# Altium integrated library Linear Technology PMIC-Switching Reg LTC1174-LTC3901.IntLib: 2647 symbols (part 231 of 310)
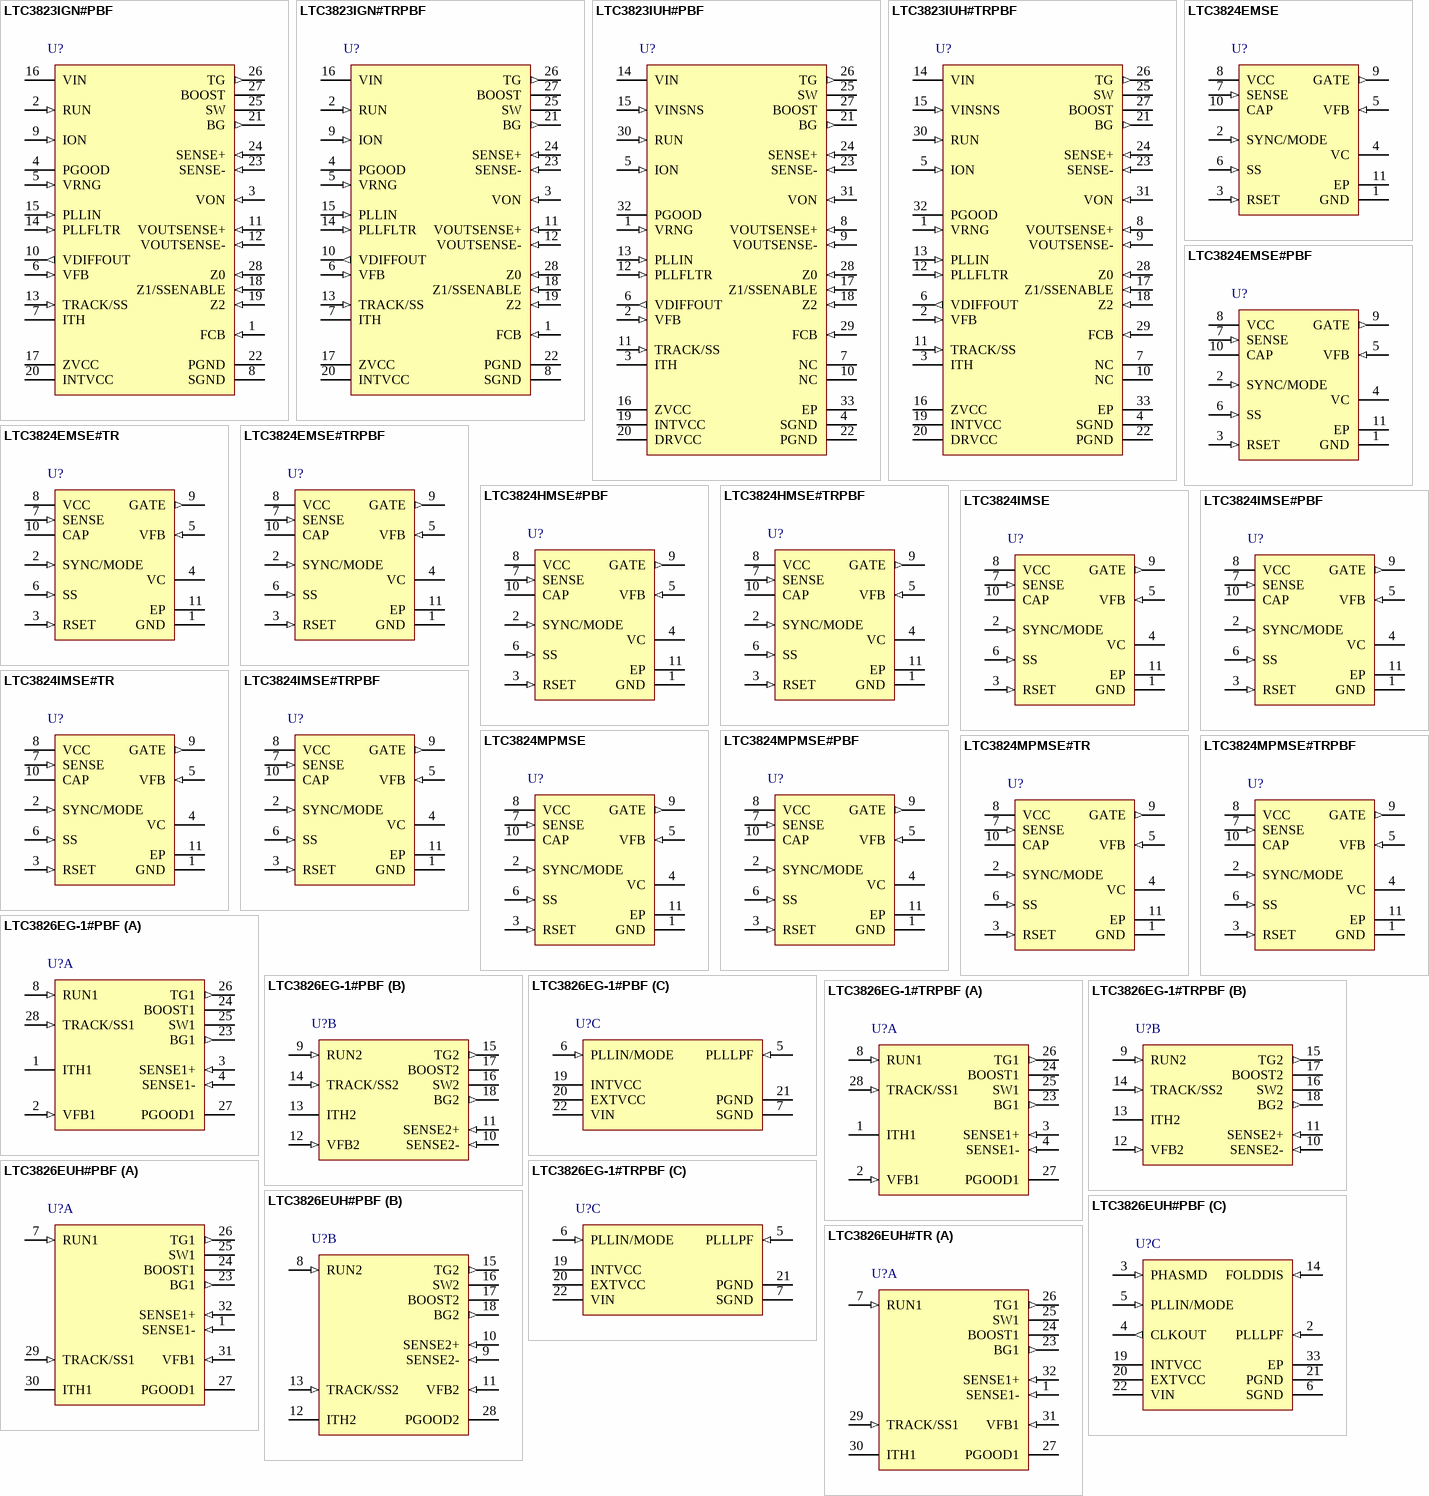
[diagram p251: symbols LTC3823IGN#PBF to LTC3826EUH#TR]

## LTC3824EMSE
designator U?
High Voltage Step-Down Controller with 40 uA Quiescent Current, 10-pin SOP (MSE-10-EDP), -40 to 125 degC; Manufacturer: Linear Technology; PartNumber: LTC3824EMSE; Number of Outputs: 1; PackageReference: MSE-10; PackageDescription: 10-Pin Plastic MSOP, Exposed Die Pad, Body 3 x 3 mm, Pitch 0.5 mm; Supplier 1: Newark; Supplier Part Number 1: 56M8524; RoHS: FALSE
footprint LT-MSE-10-EDP_N (SOP, 10-Leads, Body 3.1x3.1mm, Pitch 0.5mm, Thermal Pad 1.88x1.68mm, IPC Medium Density)
footprint LT-MSE-10-EDP_L (SOP, 10-Leads, Body 3.1x3.1mm, Pitch 0.5mm, Thermal Pad 1.88x1.68mm, IPC High Density)
footprint LT-MSE-10-EDP_M (SOP, 10-Leads, Body 3.1x3.1mm, Pitch 0.5mm, Thermal Pad 1.88x1.68mm, IPC Low Density)
pins: 1 GND (power) "Chip Ground Pin.", 2 SYNC/MODE (in) "Synchronization Input and Burst Mode Operation Enable/Disable. If this pin is left open or pulled higher than 2V, Burst Mode operation will be enabled at light load and the typical threshold of entering Burst Mode operation (See Datasheet)", 3 RSET (in) "A resistor from RSET to ground sets the LTC3824 switching frequency.", 4 VC "The Output of the voltage error amplifier gm and the control signal of the current mode PWM control loop. Switching starts at 0.7V, and higher VC corresponds to higher inductor current. When VC is pulled below 25mV, the (See Datasheet)", 5 VFB (in) "Error Amplifier Inverting Input. A resistor divider to this pin sets the output voltage. When VFB is less than 0.5V, the switching frequency will fold back to 50kHz to reduce the minimum on-cycle.", 6 SS (in) "Soft-Start Pin. A capacitor on this pin sets the output ramp-up rate. The typical time for SS to reach the programmed level is (C • 0.8V)/5uA.", 7 SENSE (in) "Current Sense Input Pin. A sense resistor, RS, from VIN to SENSE sets the current limit to 100mV/RS.", 8 VCC (power) "Chip Power Supply. Power supply bypassing is required.", 9 GATE (out) "Gate Drive for The External P-channel MOSFET. Typical peak drive current is 2.5A and the drive voltage is clamped to 8V when VCC is higher than 9V.", 10 CAP "A Low ESR Capacitor of at Least 0.1uF is required from this pin to VCC to bypass the internal regulator for biasing the gate driver circuitry.", 11 EP (power) "Ground. Must be soldered to PCB with expanded metal trace for rated thermal performance."

## LTC3824EMSE#PBF
designator U?
High Voltage Step-Down Controller with 40 uA Quiescent Current, 10-pin SOP (MSE-10-EDP), -40 to 125 degC, Pb-Free; Manufacturer: Linear Technology; PartNumber: LTC3824EMSE#PBF; Number of Outputs: 1; PackageReference: MSE-10; PackageDescription: 10-Pin Plastic MSOP, Exposed Die Pad, Body 3 x 3 mm, Pitch 0.5 mm; Supplier 1: Digi-Key; Supplier Part Number 1: LTC3824EMSE#PBF-ND; RoHS: TRUE
footprint LT-MSE-10-EDP_N (SOP, 10-Leads, Body 3.1x3.1mm, Pitch 0.5mm, Thermal Pad 1.88x1.68mm, IPC Medium Density)
footprint LT-MSE-10-EDP_L (SOP, 10-Leads, Body 3.1x3.1mm, Pitch 0.5mm, Thermal Pad 1.88x1.68mm, IPC High Density)
footprint LT-MSE-10-EDP_M (SOP, 10-Leads, Body 3.1x3.1mm, Pitch 0.5mm, Thermal Pad 1.88x1.68mm, IPC Low Density)
pins: 1 GND (power) "Chip Ground Pin.", 2 SYNC/MODE (in) "Synchronization Input and Burst Mode Operation Enable/Disable. If this pin is left open or pulled higher than 2V, Burst Mode operation will be enabled at light load and the typical threshold of entering Burst Mode operation (See Datasheet)", 3 RSET (in) "A resistor from RSET to ground sets the LTC3824 switching frequency.", 4 VC "The Output of the voltage error amplifier gm and the control signal of the current mode PWM control loop. Switching starts at 0.7V, and higher VC corresponds to higher inductor current. When VC is pulled below 25mV, the (See Datasheet)", 5 VFB (in) "Error Amplifier Inverting Input. A resistor divider to this pin sets the output voltage. When VFB is less than 0.5V, the switching frequency will fold back to 50kHz to reduce the minimum on-cycle.", 6 SS (in) "Soft-Start Pin. A capacitor on this pin sets the output ramp-up rate. The typical time for SS to reach the programmed level is (C • 0.8V)/5uA.", 7 SENSE (in) "Current Sense Input Pin. A sense resistor, RS, from VIN to SENSE sets the current limit to 100mV/RS.", 8 VCC (power) "Chip Power Supply. Power supply bypassing is required.", 9 GATE (out) "Gate Drive for The External P-channel MOSFET. Typical peak drive current is 2.5A and the drive voltage is clamped to 8V when VCC is higher than 9V.", 10 CAP "A Low ESR Capacitor of at Least 0.1uF is required from this pin to VCC to bypass the internal regulator for biasing the gate driver circuitry.", 11 EP (power) "Ground. Must be soldered to PCB with expanded metal trace for rated thermal performance."

## LTC3824EMSE#TR
designator U?
High Voltage Step-Down Controller with 40 uA Quiescent Current, 10-pin SOP (MSE-10-EDP), -40 to 125 degC, Tape and Reel; Manufacturer: Linear Technology; PartNumber: LTC3824EMSE#TR; Number of Outputs: 1; PackageReference: MSE-10; PackageDescription: 10-Pin Plastic MSOP, Exposed Die Pad, Body 3 x 3 mm, Pitch 0.5 mm; RoHS: FALSE
footprint LT-MSE-10-EDP_N (SOP, 10-Leads, Body 3.1x3.1mm, Pitch 0.5mm, Thermal Pad 1.88x1.68mm, IPC Medium Density)
footprint LT-MSE-10-EDP_L (SOP, 10-Leads, Body 3.1x3.1mm, Pitch 0.5mm, Thermal Pad 1.88x1.68mm, IPC High Density)
footprint LT-MSE-10-EDP_M (SOP, 10-Leads, Body 3.1x3.1mm, Pitch 0.5mm, Thermal Pad 1.88x1.68mm, IPC Low Density)
pins: 1 GND (power) "Chip Ground Pin.", 2 SYNC/MODE (in) "Synchronization Input and Burst Mode Operation Enable/Disable. If this pin is left open or pulled higher than 2V, Burst Mode operation will be enabled at light load and the typical threshold of entering Burst Mode operation (See Datasheet)", 3 RSET (in) "A resistor from RSET to ground sets the LTC3824 switching frequency.", 4 VC "The Output of the voltage error amplifier gm and the control signal of the current mode PWM control loop. Switching starts at 0.7V, and higher VC corresponds to higher inductor current. When VC is pulled below 25mV, the (See Datasheet)", 5 VFB (in) "Error Amplifier Inverting Input. A resistor divider to this pin sets the output voltage. When VFB is less than 0.5V, the switching frequency will fold back to 50kHz to reduce the minimum on-cycle.", 6 SS (in) "Soft-Start Pin. A capacitor on this pin sets the output ramp-up rate. The typical time for SS to reach the programmed level is (C • 0.8V)/5uA.", 7 SENSE (in) "Current Sense Input Pin. A sense resistor, RS, from VIN to SENSE sets the current limit to 100mV/RS.", 8 VCC (power) "Chip Power Supply. Power supply bypassing is required.", 9 GATE (out) "Gate Drive for The External P-channel MOSFET. Typical peak drive current is 2.5A and the drive voltage is clamped to 8V when VCC is higher than 9V.", 10 CAP "A Low ESR Capacitor of at Least 0.1uF is required from this pin to VCC to bypass the internal regulator for biasing the gate driver circuitry.", 11 EP (power) "Ground. Must be soldered to PCB with expanded metal trace for rated thermal performance."

## LTC3824EMSE#TRPBF
designator U?
High Voltage Step-Down Controller with 40 uA Quiescent Current, 10-pin SOP (MSE-10-EDP), -40 to 125 degC, Pb-Free, Tape and Reel; Manufacturer: Linear Technology; PartNumber: LTC3824EMSE#TRPBF; Number of Outputs: 1; PackageReference: MSE-10; PackageDescription: 10-Pin Plastic MSOP, Exposed Die Pad, Body 3 x 3 mm, Pitch 0.5 mm; Supplier 1: Digi-Key; Supplier Part Number 1: LTC3824EMSE#TRPBFTR-ND; RoHS: TRUE
footprint LT-MSE-10-EDP_N (SOP, 10-Leads, Body 3.1x3.1mm, Pitch 0.5mm, Thermal Pad 1.88x1.68mm, IPC Medium Density)
footprint LT-MSE-10-EDP_L (SOP, 10-Leads, Body 3.1x3.1mm, Pitch 0.5mm, Thermal Pad 1.88x1.68mm, IPC High Density)
footprint LT-MSE-10-EDP_M (SOP, 10-Leads, Body 3.1x3.1mm, Pitch 0.5mm, Thermal Pad 1.88x1.68mm, IPC Low Density)
pins: 1 GND (power) "Chip Ground Pin.", 2 SYNC/MODE (in) "Synchronization Input and Burst Mode Operation Enable/Disable. If this pin is left open or pulled higher than 2V, Burst Mode operation will be enabled at light load and the typical threshold of entering Burst Mode operation (See Datasheet)", 3 RSET (in) "A resistor from RSET to ground sets the LTC3824 switching frequency.", 4 VC "The Output of the voltage error amplifier gm and the control signal of the current mode PWM control loop. Switching starts at 0.7V, and higher VC corresponds to higher inductor current. When VC is pulled below 25mV, the (See Datasheet)", 5 VFB (in) "Error Amplifier Inverting Input. A resistor divider to this pin sets the output voltage. When VFB is less than 0.5V, the switching frequency will fold back to 50kHz to reduce the minimum on-cycle.", 6 SS (in) "Soft-Start Pin. A capacitor on this pin sets the output ramp-up rate. The typical time for SS to reach the programmed level is (C • 0.8V)/5uA.", 7 SENSE (in) "Current Sense Input Pin. A sense resistor, RS, from VIN to SENSE sets the current limit to 100mV/RS.", 8 VCC (power) "Chip Power Supply. Power supply bypassing is required.", 9 GATE (out) "Gate Drive for The External P-channel MOSFET. Typical peak drive current is 2.5A and the drive voltage is clamped to 8V when VCC is higher than 9V.", 10 CAP "A Low ESR Capacitor of at Least 0.1uF is required from this pin to VCC to bypass the internal regulator for biasing the gate driver circuitry.", 11 EP (power) "Ground. Must be soldered to PCB with expanded metal trace for rated thermal performance."

## LTC3824HMSE#PBF
designator U?
High Voltage Step-Down Controller with 40 uA Quiescent Current, 10-pin SOP (MSE-10-EDP), -40 to 150 degC, Pb-Free; Manufacturer: Linear Technology; PartNumber: LTC3824HMSE#PBF; Number of Outputs: 1; PackageReference: MSE-10; PackageDescription: 10-Pin Plastic MSOP, Exposed Die Pad, Body 3 x 3 mm, Pitch 0.5 mm; Supplier 1: Digi-Key; Supplier Part Number 1: LTC3824HMSE#PBF-ND; RoHS: TRUE
footprint LT-MSE-10-EDP_N (SOP, 10-Leads, Body 3.1x3.1mm, Pitch 0.5mm, Thermal Pad 1.88x1.68mm, IPC Medium Density)
footprint LT-MSE-10-EDP_L (SOP, 10-Leads, Body 3.1x3.1mm, Pitch 0.5mm, Thermal Pad 1.88x1.68mm, IPC High Density)
footprint LT-MSE-10-EDP_M (SOP, 10-Leads, Body 3.1x3.1mm, Pitch 0.5mm, Thermal Pad 1.88x1.68mm, IPC Low Density)
pins: 1 GND (power) "Chip Ground Pin.", 2 SYNC/MODE (in) "Synchronization Input and Burst Mode Operation Enable/Disable. If this pin is left open or pulled higher than 2V, Burst Mode operation will be enabled at light load and the typical threshold of entering Burst Mode operation (See Datasheet)", 3 RSET (in) "A resistor from RSET to ground sets the LTC3824 switching frequency.", 4 VC "The Output of the voltage error amplifier gm and the control signal of the current mode PWM control loop. Switching starts at 0.7V, and higher VC corresponds to higher inductor current. When VC is pulled below 25mV, the (See Datasheet)", 5 VFB (in) "Error Amplifier Inverting Input. A resistor divider to this pin sets the output voltage. When VFB is less than 0.5V, the switching frequency will fold back to 50kHz to reduce the minimum on-cycle.", 6 SS (in) "Soft-Start Pin. A capacitor on this pin sets the output ramp-up rate. The typical time for SS to reach the programmed level is (C • 0.8V)/5uA.", 7 SENSE (in) "Current Sense Input Pin. A sense resistor, RS, from VIN to SENSE sets the current limit to 100mV/RS.", 8 VCC (power) "Chip Power Supply. Power supply bypassing is required.", 9 GATE (out) "Gate Drive for The External P-channel MOSFET. Typical peak drive current is 2.5A and the drive voltage is clamped to 8V when VCC is higher than 9V.", 10 CAP "A Low ESR Capacitor of at Least 0.1uF is required from this pin to VCC to bypass the internal regulator for biasing the gate driver circuitry.", 11 EP (power) "Ground. Must be soldered to PCB with expanded metal trace for rated thermal performance."

## LTC3824HMSE#TRPBF
designator U?
High Voltage Step-Down Controller with 40 uA Quiescent Current, 10-pin SOP (MSE-10-EDP), -40 to 150 degC, Pb-Free, Tape and Reel; Manufacturer: Linear Technology; PartNumber: LTC3824HMSE#TRPBF; Number of Outputs: 1; PackageReference: MSE-10; PackageDescription: 10-Pin Plastic MSOP, Exposed Die Pad, Body 3 x 3 mm, Pitch 0.5 mm; Supplier 1: Digi-Key; Supplier Part Number 1: LTC3824HMSE#TRPBF-ND; RoHS: TRUE
footprint LT-MSE-10-EDP_N (SOP, 10-Leads, Body 3.1x3.1mm, Pitch 0.5mm, Thermal Pad 1.88x1.68mm, IPC Medium Density)
footprint LT-MSE-10-EDP_L (SOP, 10-Leads, Body 3.1x3.1mm, Pitch 0.5mm, Thermal Pad 1.88x1.68mm, IPC High Density)
footprint LT-MSE-10-EDP_M (SOP, 10-Leads, Body 3.1x3.1mm, Pitch 0.5mm, Thermal Pad 1.88x1.68mm, IPC Low Density)
pins: 1 GND (power) "Chip Ground Pin.", 2 SYNC/MODE (in) "Synchronization Input and Burst Mode Operation Enable/Disable. If this pin is left open or pulled higher than 2V, Burst Mode operation will be enabled at light load and the typical threshold of entering Burst Mode operation (See Datasheet)", 3 RSET (in) "A resistor from RSET to ground sets the LTC3824 switching frequency.", 4 VC "The Output of the voltage error amplifier gm and the control signal of the current mode PWM control loop. Switching starts at 0.7V, and higher VC corresponds to higher inductor current. When VC is pulled below 25mV, the (See Datasheet)", 5 VFB (in) "Error Amplifier Inverting Input. A resistor divider to this pin sets the output voltage. When VFB is less than 0.5V, the switching frequency will fold back to 50kHz to reduce the minimum on-cycle.", 6 SS (in) "Soft-Start Pin. A capacitor on this pin sets the output ramp-up rate. The typical time for SS to reach the programmed level is (C • 0.8V)/5uA.", 7 SENSE (in) "Current Sense Input Pin. A sense resistor, RS, from VIN to SENSE sets the current limit to 100mV/RS.", 8 VCC (power) "Chip Power Supply. Power supply bypassing is required.", 9 GATE (out) "Gate Drive for The External P-channel MOSFET. Typical peak drive current is 2.5A and the drive voltage is clamped to 8V when VCC is higher than 9V.", 10 CAP "A Low ESR Capacitor of at Least 0.1uF is required from this pin to VCC to bypass the internal regulator for biasing the gate driver circuitry.", 11 EP (power) "Ground. Must be soldered to PCB with expanded metal trace for rated thermal performance."

## LTC3824IMSE
designator U?
High Voltage Step-Down Controller with 40 uA Quiescent Current, 10-pin SOP (MSE-10-EDP), -40 to 125 degC; Manufacturer: Linear Technology; PartNumber: LTC3824IMSE; Number of Outputs: 1; PackageReference: MSE-10; PackageDescription: 10-Pin Plastic MSOP, Exposed Die Pad, Body 3 x 3 mm, Pitch 0.5 mm; Supplier 1: Newark; Supplier Part Number 1: 56M8528; RoHS: FALSE
footprint LT-MSE-10-EDP_N (SOP, 10-Leads, Body 3.1x3.1mm, Pitch 0.5mm, Thermal Pad 1.88x1.68mm, IPC Medium Density)
footprint LT-MSE-10-EDP_L (SOP, 10-Leads, Body 3.1x3.1mm, Pitch 0.5mm, Thermal Pad 1.88x1.68mm, IPC High Density)
footprint LT-MSE-10-EDP_M (SOP, 10-Leads, Body 3.1x3.1mm, Pitch 0.5mm, Thermal Pad 1.88x1.68mm, IPC Low Density)
pins: 1 GND (power) "Chip Ground Pin.", 2 SYNC/MODE (in) "Synchronization Input and Burst Mode Operation Enable/Disable. If this pin is left open or pulled higher than 2V, Burst Mode operation will be enabled at light load and the typical threshold of entering Burst Mode operation (See Datasheet)", 3 RSET (in) "A resistor from RSET to ground sets the LTC3824 switching frequency.", 4 VC "The Output of the voltage error amplifier gm and the control signal of the current mode PWM control loop. Switching starts at 0.7V, and higher VC corresponds to higher inductor current. When VC is pulled below 25mV, the (See Datasheet)", 5 VFB (in) "Error Amplifier Inverting Input. A resistor divider to this pin sets the output voltage. When VFB is less than 0.5V, the switching frequency will fold back to 50kHz to reduce the minimum on-cycle.", 6 SS (in) "Soft-Start Pin. A capacitor on this pin sets the output ramp-up rate. The typical time for SS to reach the programmed level is (C • 0.8V)/5uA.", 7 SENSE (in) "Current Sense Input Pin. A sense resistor, RS, from VIN to SENSE sets the current limit to 100mV/RS.", 8 VCC (power) "Chip Power Supply. Power supply bypassing is required.", 9 GATE (out) "Gate Drive for The External P-channel MOSFET. Typical peak drive current is 2.5A and the drive voltage is clamped to 8V when VCC is higher than 9V.", 10 CAP "A Low ESR Capacitor of at Least 0.1uF is required from this pin to VCC to bypass the internal regulator for biasing the gate driver circuitry.", 11 EP (power) "Ground. Must be soldered to PCB with expanded metal trace for rated thermal performance."

## LTC3824IMSE#PBF
designator U?
High Voltage Step-Down Controller with 40 uA Quiescent Current, 10-pin SOP (MSE-10-EDP), -40 to 125 degC, Pb-Free; Manufacturer: Linear Technology; PartNumber: LTC3824IMSE#PBF; Number of Outputs: 1; PackageReference: MSE-10; PackageDescription: 10-Pin Plastic MSOP, Exposed Die Pad, Body 3 x 3 mm, Pitch 0.5 mm; Supplier 1: Digi-Key; Supplier Part Number 1: LTC3824IMSE#PBF-ND; RoHS: TRUE
footprint LT-MSE-10-EDP_N (SOP, 10-Leads, Body 3.1x3.1mm, Pitch 0.5mm, Thermal Pad 1.88x1.68mm, IPC Medium Density)
footprint LT-MSE-10-EDP_L (SOP, 10-Leads, Body 3.1x3.1mm, Pitch 0.5mm, Thermal Pad 1.88x1.68mm, IPC High Density)
footprint LT-MSE-10-EDP_M (SOP, 10-Leads, Body 3.1x3.1mm, Pitch 0.5mm, Thermal Pad 1.88x1.68mm, IPC Low Density)
pins: 1 GND (power) "Chip Ground Pin.", 2 SYNC/MODE (in) "Synchronization Input and Burst Mode Operation Enable/Disable. If this pin is left open or pulled higher than 2V, Burst Mode operation will be enabled at light load and the typical threshold of entering Burst Mode operation (See Datasheet)", 3 RSET (in) "A resistor from RSET to ground sets the LTC3824 switching frequency.", 4 VC "The Output of the voltage error amplifier gm and the control signal of the current mode PWM control loop. Switching starts at 0.7V, and higher VC corresponds to higher inductor current. When VC is pulled below 25mV, the (See Datasheet)", 5 VFB (in) "Error Amplifier Inverting Input. A resistor divider to this pin sets the output voltage. When VFB is less than 0.5V, the switching frequency will fold back to 50kHz to reduce the minimum on-cycle.", 6 SS (in) "Soft-Start Pin. A capacitor on this pin sets the output ramp-up rate. The typical time for SS to reach the programmed level is (C • 0.8V)/5uA.", 7 SENSE (in) "Current Sense Input Pin. A sense resistor, RS, from VIN to SENSE sets the current limit to 100mV/RS.", 8 VCC (power) "Chip Power Supply. Power supply bypassing is required.", 9 GATE (out) "Gate Drive for The External P-channel MOSFET. Typical peak drive current is 2.5A and the drive voltage is clamped to 8V when VCC is higher than 9V.", 10 CAP "A Low ESR Capacitor of at Least 0.1uF is required from this pin to VCC to bypass the internal regulator for biasing the gate driver circuitry.", 11 EP (power) "Ground. Must be soldered to PCB with expanded metal trace for rated thermal performance."

## LTC3824IMSE#TR
designator U?
High Voltage Step-Down Controller with 40 uA Quiescent Current, 10-pin SOP (MSE-10-EDP), -40 to 125 degC, Tape and Reel; Manufacturer: Linear Technology; PartNumber: LTC3824IMSE#TR; Number of Outputs: 1; PackageReference: MSE-10; PackageDescription: 10-Pin Plastic MSOP, Exposed Die Pad, Body 3 x 3 mm, Pitch 0.5 mm; RoHS: FALSE
footprint LT-MSE-10-EDP_N (SOP, 10-Leads, Body 3.1x3.1mm, Pitch 0.5mm, Thermal Pad 1.88x1.68mm, IPC Medium Density)
footprint LT-MSE-10-EDP_L (SOP, 10-Leads, Body 3.1x3.1mm, Pitch 0.5mm, Thermal Pad 1.88x1.68mm, IPC High Density)
footprint LT-MSE-10-EDP_M (SOP, 10-Leads, Body 3.1x3.1mm, Pitch 0.5mm, Thermal Pad 1.88x1.68mm, IPC Low Density)
pins: 1 GND (power) "Chip Ground Pin.", 2 SYNC/MODE (in) "Synchronization Input and Burst Mode Operation Enable/Disable. If this pin is left open or pulled higher than 2V, Burst Mode operation will be enabled at light load and the typical threshold of entering Burst Mode operation (See Datasheet)", 3 RSET (in) "A resistor from RSET to ground sets the LTC3824 switching frequency.", 4 VC "The Output of the voltage error amplifier gm and the control signal of the current mode PWM control loop. Switching starts at 0.7V, and higher VC corresponds to higher inductor current. When VC is pulled below 25mV, the (See Datasheet)", 5 VFB (in) "Error Amplifier Inverting Input. A resistor divider to this pin sets the output voltage. When VFB is less than 0.5V, the switching frequency will fold back to 50kHz to reduce the minimum on-cycle.", 6 SS (in) "Soft-Start Pin. A capacitor on this pin sets the output ramp-up rate. The typical time for SS to reach the programmed level is (C • 0.8V)/5uA.", 7 SENSE (in) "Current Sense Input Pin. A sense resistor, RS, from VIN to SENSE sets the current limit to 100mV/RS.", 8 VCC (power) "Chip Power Supply. Power supply bypassing is required.", 9 GATE (out) "Gate Drive for The External P-channel MOSFET. Typical peak drive current is 2.5A and the drive voltage is clamped to 8V when VCC is higher than 9V.", 10 CAP "A Low ESR Capacitor of at Least 0.1uF is required from this pin to VCC to bypass the internal regulator for biasing the gate driver circuitry.", 11 EP (power) "Ground. Must be soldered to PCB with expanded metal trace for rated thermal performance."

## LTC3824IMSE#TRPBF
designator U?
High Voltage Step-Down Controller with 40 uA Quiescent Current, 10-pin SOP (MSE-10-EDP), -40 to 125 degC, Pb-Free, Tape and Reel; Manufacturer: Linear Technology; PartNumber: LTC3824IMSE#TRPBF; Number of Outputs: 1; PackageReference: MSE-10; PackageDescription: 10-Pin Plastic MSOP, Exposed Die Pad, Body 3 x 3 mm, Pitch 0.5 mm; Supplier 1: Digi-Key; Supplier Part Number 1: LTC3824IMSE#TRPBF-ND; RoHS: TRUE
footprint LT-MSE-10-EDP_N (SOP, 10-Leads, Body 3.1x3.1mm, Pitch 0.5mm, Thermal Pad 1.88x1.68mm, IPC Medium Density)
footprint LT-MSE-10-EDP_L (SOP, 10-Leads, Body 3.1x3.1mm, Pitch 0.5mm, Thermal Pad 1.88x1.68mm, IPC High Density)
footprint LT-MSE-10-EDP_M (SOP, 10-Leads, Body 3.1x3.1mm, Pitch 0.5mm, Thermal Pad 1.88x1.68mm, IPC Low Density)
pins: 1 GND (power) "Chip Ground Pin.", 2 SYNC/MODE (in) "Synchronization Input and Burst Mode Operation Enable/Disable. If this pin is left open or pulled higher than 2V, Burst Mode operation will be enabled at light load and the typical threshold of entering Burst Mode operation (See Datasheet)", 3 RSET (in) "A resistor from RSET to ground sets the LTC3824 switching frequency.", 4 VC "The Output of the voltage error amplifier gm and the control signal of the current mode PWM control loop. Switching starts at 0.7V, and higher VC corresponds to higher inductor current. When VC is pulled below 25mV, the (See Datasheet)", 5 VFB (in) "Error Amplifier Inverting Input. A resistor divider to this pin sets the output voltage. When VFB is less than 0.5V, the switching frequency will fold back to 50kHz to reduce the minimum on-cycle.", 6 SS (in) "Soft-Start Pin. A capacitor on this pin sets the output ramp-up rate. The typical time for SS to reach the programmed level is (C • 0.8V)/5uA.", 7 SENSE (in) "Current Sense Input Pin. A sense resistor, RS, from VIN to SENSE sets the current limit to 100mV/RS.", 8 VCC (power) "Chip Power Supply. Power supply bypassing is required.", 9 GATE (out) "Gate Drive for The External P-channel MOSFET. Typical peak drive current is 2.5A and the drive voltage is clamped to 8V when VCC is higher than 9V.", 10 CAP "A Low ESR Capacitor of at Least 0.1uF is required from this pin to VCC to bypass the internal regulator for biasing the gate driver circuitry.", 11 EP (power) "Ground. Must be soldered to PCB with expanded metal trace for rated thermal performance."

## LTC3824MPMSE
designator U?
High Voltage Step-Down Controller with 40 uA Quiescent Current, 10-pin SOP (MSE-10-EDP), -55 to 150 degC; Manufacturer: Linear Technology; PartNumber: LTC3824MPMSE; Number of Outputs: 1; PackageReference: MSE-10; PackageDescription: 10-Pin Plastic MSOP, Exposed Die Pad, Body 3 x 3 mm, Pitch 0.5 mm; Supplier 1: Newark; Supplier Part Number 1: 51P4598; RoHS: FALSE
footprint LT-MSE-10-EDP_N (SOP, 10-Leads, Body 3.1x3.1mm, Pitch 0.5mm, Thermal Pad 1.88x1.68mm, IPC Medium Density)
footprint LT-MSE-10-EDP_L (SOP, 10-Leads, Body 3.1x3.1mm, Pitch 0.5mm, Thermal Pad 1.88x1.68mm, IPC High Density)
footprint LT-MSE-10-EDP_M (SOP, 10-Leads, Body 3.1x3.1mm, Pitch 0.5mm, Thermal Pad 1.88x1.68mm, IPC Low Density)
pins: 1 GND (power) "Chip Ground Pin.", 2 SYNC/MODE (in) "Synchronization Input and Burst Mode Operation Enable/Disable. If this pin is left open or pulled higher than 2V, Burst Mode operation will be enabled at light load and the typical threshold of entering Burst Mode operation (See Datasheet)", 3 RSET (in) "A resistor from RSET to ground sets the LTC3824 switching frequency.", 4 VC "The Output of the voltage error amplifier gm and the control signal of the current mode PWM control loop. Switching starts at 0.7V, and higher VC corresponds to higher inductor current. When VC is pulled below 25mV, the (See Datasheet)", 5 VFB (in) "Error Amplifier Inverting Input. A resistor divider to this pin sets the output voltage. When VFB is less than 0.5V, the switching frequency will fold back to 50kHz to reduce the minimum on-cycle.", 6 SS (in) "Soft-Start Pin. A capacitor on this pin sets the output ramp-up rate. The typical time for SS to reach the programmed level is (C • 0.8V)/5uA.", 7 SENSE (in) "Current Sense Input Pin. A sense resistor, RS, from VIN to SENSE sets the current limit to 100mV/RS.", 8 VCC (power) "Chip Power Supply. Power supply bypassing is required.", 9 GATE (out) "Gate Drive for The External P-channel MOSFET. Typical peak drive current is 2.5A and the drive voltage is clamped to 8V when VCC is higher than 9V.", 10 CAP "A Low ESR Capacitor of at Least 0.1uF is required from this pin to VCC to bypass the internal regulator for biasing the gate driver circuitry.", 11 EP (power) "Ground. Must be soldered to PCB with expanded metal trace for rated thermal performance."

## LTC3824MPMSE#PBF
designator U?
High Voltage Step-Down Controller with 40 uA Quiescent Current, 10-pin SOP (MSE-10-EDP), -55 to 150 degC, Pb-Free; Manufacturer: Linear Technology; PartNumber: LTC3824MPMSE#PBF; Number of Outputs: 1; PackageReference: MSE-10; PackageDescription: 10-Pin Plastic MSOP, Exposed Die Pad, Body 3 x 3 mm, Pitch 0.5 mm; Supplier 1: Digi-Key; Supplier Part Number 1: LTC3824MPMSE#PBF-ND; RoHS: TRUE
footprint LT-MSE-10-EDP_N (SOP, 10-Leads, Body 3.1x3.1mm, Pitch 0.5mm, Thermal Pad 1.88x1.68mm, IPC Medium Density)
footprint LT-MSE-10-EDP_L (SOP, 10-Leads, Body 3.1x3.1mm, Pitch 0.5mm, Thermal Pad 1.88x1.68mm, IPC High Density)
footprint LT-MSE-10-EDP_M (SOP, 10-Leads, Body 3.1x3.1mm, Pitch 0.5mm, Thermal Pad 1.88x1.68mm, IPC Low Density)
pins: 1 GND (power) "Chip Ground Pin.", 2 SYNC/MODE (in) "Synchronization Input and Burst Mode Operation Enable/Disable. If this pin is left open or pulled higher than 2V, Burst Mode operation will be enabled at light load and the typical threshold of entering Burst Mode operation (See Datasheet)", 3 RSET (in) "A resistor from RSET to ground sets the LTC3824 switching frequency.", 4 VC "The Output of the voltage error amplifier gm and the control signal of the current mode PWM control loop. Switching starts at 0.7V, and higher VC corresponds to higher inductor current. When VC is pulled below 25mV, the (See Datasheet)", 5 VFB (in) "Error Amplifier Inverting Input. A resistor divider to this pin sets the output voltage. When VFB is less than 0.5V, the switching frequency will fold back to 50kHz to reduce the minimum on-cycle.", 6 SS (in) "Soft-Start Pin. A capacitor on this pin sets the output ramp-up rate. The typical time for SS to reach the programmed level is (C • 0.8V)/5uA.", 7 SENSE (in) "Current Sense Input Pin. A sense resistor, RS, from VIN to SENSE sets the current limit to 100mV/RS.", 8 VCC (power) "Chip Power Supply. Power supply bypassing is required.", 9 GATE (out) "Gate Drive for The External P-channel MOSFET. Typical peak drive current is 2.5A and the drive voltage is clamped to 8V when VCC is higher than 9V.", 10 CAP "A Low ESR Capacitor of at Least 0.1uF is required from this pin to VCC to bypass the internal regulator for biasing the gate driver circuitry.", 11 EP (power) "Ground. Must be soldered to PCB with expanded metal trace for rated thermal performance."

## LTC3824MPMSE#TR
designator U?
High Voltage Step-Down Controller with 40 uA Quiescent Current, 10-pin SOP (MSE-10-EDP), -55 to 150 degC, Tape and Reel; Manufacturer: Linear Technology; PartNumber: LTC3824MPMSE#TR; Number of Outputs: 1; PackageReference: MSE-10; PackageDescription: 10-Pin Plastic MSOP, Exposed Die Pad, Body 3 x 3 mm, Pitch 0.5 mm; RoHS: FALSE
footprint LT-MSE-10-EDP_N (SOP, 10-Leads, Body 3.1x3.1mm, Pitch 0.5mm, Thermal Pad 1.88x1.68mm, IPC Medium Density)
footprint LT-MSE-10-EDP_L (SOP, 10-Leads, Body 3.1x3.1mm, Pitch 0.5mm, Thermal Pad 1.88x1.68mm, IPC High Density)
footprint LT-MSE-10-EDP_M (SOP, 10-Leads, Body 3.1x3.1mm, Pitch 0.5mm, Thermal Pad 1.88x1.68mm, IPC Low Density)
pins: 1 GND (power) "Chip Ground Pin.", 2 SYNC/MODE (in) "Synchronization Input and Burst Mode Operation Enable/Disable. If this pin is left open or pulled higher than 2V, Burst Mode operation will be enabled at light load and the typical threshold of entering Burst Mode operation (See Datasheet)", 3 RSET (in) "A resistor from RSET to ground sets the LTC3824 switching frequency.", 4 VC "The Output of the voltage error amplifier gm and the control signal of the current mode PWM control loop. Switching starts at 0.7V, and higher VC corresponds to higher inductor current. When VC is pulled below 25mV, the (See Datasheet)", 5 VFB (in) "Error Amplifier Inverting Input. A resistor divider to this pin sets the output voltage. When VFB is less than 0.5V, the switching frequency will fold back to 50kHz to reduce the minimum on-cycle.", 6 SS (in) "Soft-Start Pin. A capacitor on this pin sets the output ramp-up rate. The typical time for SS to reach the programmed level is (C • 0.8V)/5uA.", 7 SENSE (in) "Current Sense Input Pin. A sense resistor, RS, from VIN to SENSE sets the current limit to 100mV/RS.", 8 VCC (power) "Chip Power Supply. Power supply bypassing is required.", 9 GATE (out) "Gate Drive for The External P-channel MOSFET. Typical peak drive current is 2.5A and the drive voltage is clamped to 8V when VCC is higher than 9V.", 10 CAP "A Low ESR Capacitor of at Least 0.1uF is required from this pin to VCC to bypass the internal regulator for biasing the gate driver circuitry.", 11 EP (power) "Ground. Must be soldered to PCB with expanded metal trace for rated thermal performance."

## LTC3824MPMSE#TRPBF
designator U?
High Voltage Step-Down Controller with 40 uA Quiescent Current, 10-pin SOP (MSE-10-EDP), -55 to 150 degC, Pb-Free, Tape and Reel; Manufacturer: Linear Technology; PartNumber: LTC3824MPMSE#TRPBF; Number of Outputs: 1; PackageReference: MSE-10; PackageDescription: 10-Pin Plastic MSOP, Exposed Die Pad, Body 3 x 3 mm, Pitch 0.5 mm; Supplier 1: Digi-Key; Supplier Part Number 1: LTC3824MPMSE#TRPBF-ND; RoHS: TRUE
footprint LT-MSE-10-EDP_N (SOP, 10-Leads, Body 3.1x3.1mm, Pitch 0.5mm, Thermal Pad 1.88x1.68mm, IPC Medium Density)
footprint LT-MSE-10-EDP_L (SOP, 10-Leads, Body 3.1x3.1mm, Pitch 0.5mm, Thermal Pad 1.88x1.68mm, IPC High Density)
footprint LT-MSE-10-EDP_M (SOP, 10-Leads, Body 3.1x3.1mm, Pitch 0.5mm, Thermal Pad 1.88x1.68mm, IPC Low Density)
pins: 1 GND (power) "Chip Ground Pin.", 2 SYNC/MODE (in) "Synchronization Input and Burst Mode Operation Enable/Disable. If this pin is left open or pulled higher than 2V, Burst Mode operation will be enabled at light load and the typical threshold of entering Burst Mode operation (See Datasheet)", 3 RSET (in) "A resistor from RSET to ground sets the LTC3824 switching frequency.", 4 VC "The Output of the voltage error amplifier gm and the control signal of the current mode PWM control loop. Switching starts at 0.7V, and higher VC corresponds to higher inductor current. When VC is pulled below 25mV, the (See Datasheet)", 5 VFB (in) "Error Amplifier Inverting Input. A resistor divider to this pin sets the output voltage. When VFB is less than 0.5V, the switching frequency will fold back to 50kHz to reduce the minimum on-cycle.", 6 SS (in) "Soft-Start Pin. A capacitor on this pin sets the output ramp-up rate. The typical time for SS to reach the programmed level is (C • 0.8V)/5uA.", 7 SENSE (in) "Current Sense Input Pin. A sense resistor, RS, from VIN to SENSE sets the current limit to 100mV/RS.", 8 VCC (power) "Chip Power Supply. Power supply bypassing is required.", 9 GATE (out) "Gate Drive for The External P-channel MOSFET. Typical peak drive current is 2.5A and the drive voltage is clamped to 8V when VCC is higher than 9V.", 10 CAP "A Low ESR Capacitor of at Least 0.1uF is required from this pin to VCC to bypass the internal regulator for biasing the gate driver circuitry.", 11 EP (power) "Ground. Must be soldered to PCB with expanded metal trace for rated thermal performance."

## LTC3826EG-1#PBF
designator U?
30 uA IQ, Dual, 2-Phase Synchronous Step-Down Controller, 28-pin SOP (G-28), -40 to 85 degC, Pb-Free; Manufacturer: Linear Technology; PartNumber: LTC3826EG-1#PBF; Number of Outputs: 2; PackageReference: G-28; PackageDescription: 28-Pin Plastic SSOP, Body 10.2 x 5.3 mm, Pitch 0.65 mm; Supplier 1: Digi-Key; Supplier Part Number 1: LTC3826EG-1#PBF-ND; RoHS: TRUE
footprint LT-G-28_N (SOP, 28-Leads, Body 10.2x5.3mm, Pitch 0.65mm, IPC Medium Density)
footprint LT-G-28_L (SOP, 28-Leads, Body 10.2x5.3mm, Pitch 0.65mm, IPC High Density)
footprint LT-G-28_M (SOP, 28-Leads, Body 10.2x5.3mm, Pitch 0.65mm, IPC Low Density)
part A pins: 1 ITH1 "Error Amplifier Outputs and Switching Regulator Compensation Points. Each associated channel’s current comparator trip point increases with this control voltage.", 2 VFB1 (in) "Receives the remotely sensed feedback voltage for each controller from an external resistive divider across the output.", 3 SENSE1+ (in) "The (+) Input to the Differential Current Comparators. The ITH pin voltage and controlled offsets between the SENSE- and SENSE+ pins in conjunction with RSENSE set the current trip threshold.", 4 SENSE1- (in) "The (-) Input to the Differential Current Comparators.", 8 RUN1 (in) "Digital Run Control Inputs for Each Controller. Forcing either of these pins below 0.7V shuts down that controller.", 23 BG1 (out) "High Current Gate Drives for Bottom (Synchronous) N-Channel MOSFETs. Voltage swing at these pins is from ground to INTVCC.", 24 BOOST1 "Bootstrapped Supplies to the Topside Floating Drivers. Capacitors are connected between the BOOST and SW pins and Schottky diodes are tied between the BOOST and INTVCC pins. Voltage swing at the BOOST pins is from INTVCC to (See Datasheet)", 25 SW1 "Switch Node Connections to Inductors. Voltage swing at these pins is from a Schottky diode (external) voltage drop below ground to VIN.", 26 TG1 (out) "High Current Gate Drives for Top N-Channel MOSFETs. These are the outputs of floating drivers with a voltage swing equal to INTVCC - 0.5V superimposed on the switch node voltage SW.", 27 PGOOD1 (oc) "Open-Drain Logic Output. PGOOD1 is pulled to ground when the voltage on the VFB1 pin is not within +/-10% of its set point.", 28 TRACK/SS1 (in) "External Tracking and Soft-Start Input."
part B pins: 9 RUN2 (in) "Digital Run Control Inputs for Each Controller. Forcing either of these pins below 0.7V shuts down that controller.", 10 SENSE2- (in) "The (-) Input to the Differential Current Comparators.", 11 SENSE2+ (in) "The (+) Input to the Differential Current Comparators. The ITH pin voltage and controlled offsets between the SENSE- and SENSE+ pins in conjunction with RSENSE set the current trip threshold.", 12 VFB2 (in) "Receives the remotely sensed feedback voltage for each controller from an external resistive divider across the output.", 13 ITH2 "Error Amplifier Outputs and Switching Regulator Compensation Points. Each associated channel’s current comparator trip point increases with this control voltage.", 14 TRACK/SS2 (in) "External Tracking and Soft-Start Input.", 15 TG2 (out) "High Current Gate Drives for Top N-Channel MOSFETs. These are the outputs of floating drivers with a voltage swing equal to INTVCC - 0.5V superimposed on the switch node voltage SW.", 16 SW2 "Switch Node Connections to Inductors. Voltage swing at these pins is from a Schottky diode (external) voltage drop below ground to VIN.", 17 BOOST2 "Bootstrapped Supplies to the Topside Floating Drivers. Capacitors are connected between the BOOST and SW pins and Schottky diodes are tied between the BOOST and INTVCC pins. Voltage swing at the BOOST pins is from INTVCC to (See Datasheet)", 18 BG2 (out) "High Current Gate Drives for Bottom (Synchronous) N-Channel MOSFETs. Voltage swing at these pins is from ground to INTVCC."
part C pins: 5 PLLLPF (in) "The phase-locked loop’s lowpass filter is tied to this pin when synchronizing to an external clock.", 6 PLLIN/MODE (in) "External Synchronization Input to Phase Detector and Forced Continuous Control Input.", 7 SGND (power) "Small-signal Ground common to both controllers, must be routed separately from high current grounds to the common (-) terminals of the CIN capacitors.", 19 INTVCC (power) "Output of the Internal Linear Low Dropout Regulator. The driver and control circuits are powered from this voltage source. Must be decoupled to power ground with a minimum of 4.7uF tantalum or other low ESR capacitor.", 20 EXTVCC (power) "External Power Input to an Internal LDO Connected to INTVCC. This LDO supplies INTVCC power, bypassing the internal LDO powered from VIN whenever EXTVCC is higher than 4.7V. See EXTVCC Connection in the Applications (See Datasheet)", 21 PGND (power) "Driver Power Ground. Connects to the sources of bottom (synchronous) N-channel MOSFETs, anodes of the Schottky rectifi ers and the (-) terminal(s) of CIN.", 22 VIN (power) "Main Supply Pin. A bypass capacitor should be tied between this pin and the signal ground pin."

## LTC3826EG-1#TRPBF
designator U?
30 uA IQ, Dual, 2-Phase Synchronous Step-Down Controller, 28-pin SOP (G-28), -40 to 85 degC, Pb-Free, Tape and Reel; Manufacturer: Linear Technology; PartNumber: LTC3826EG-1#TRPBF; Number of Outputs: 2; PackageReference: G-28; PackageDescription: 28-Pin Plastic SSOP, Body 10.2 x 5.3 mm, Pitch 0.65 mm; Supplier 1: Digi-Key; Supplier Part Number 1: LTC3826EG-1#TRPBF-ND; RoHS: TRUE
footprint LT-G-28_N (SOP, 28-Leads, Body 10.2x5.3mm, Pitch 0.65mm, IPC Medium Density)
footprint LT-G-28_L (SOP, 28-Leads, Body 10.2x5.3mm, Pitch 0.65mm, IPC High Density)
footprint LT-G-28_M (SOP, 28-Leads, Body 10.2x5.3mm, Pitch 0.65mm, IPC Low Density)
part A pins: 1 ITH1 "Error Amplifier Outputs and Switching Regulator Compensation Points. Each associated channel’s current comparator trip point increases with this control voltage.", 2 VFB1 (in) "Receives the remotely sensed feedback voltage for each controller from an external resistive divider across the output.", 3 SENSE1+ (in) "The (+) Input to the Differential Current Comparators. The ITH pin voltage and controlled offsets between the SENSE- and SENSE+ pins in conjunction with RSENSE set the current trip threshold.", 4 SENSE1- (in) "The (-) Input to the Differential Current Comparators.", 8 RUN1 (in) "Digital Run Control Inputs for Each Controller. Forcing either of these pins below 0.7V shuts down that controller.", 23 BG1 (out) "High Current Gate Drives for Bottom (Synchronous) N-Channel MOSFETs. Voltage swing at these pins is from ground to INTVCC.", 24 BOOST1 "Bootstrapped Supplies to the Topside Floating Drivers. Capacitors are connected between the BOOST and SW pins and Schottky diodes are tied between the BOOST and INTVCC pins. Voltage swing at the BOOST pins is from INTVCC to (See Datasheet)", 25 SW1 "Switch Node Connections to Inductors. Voltage swing at these pins is from a Schottky diode (external) voltage drop below ground to VIN.", 26 TG1 (out) "High Current Gate Drives for Top N-Channel MOSFETs. These are the outputs of floating drivers with a voltage swing equal to INTVCC - 0.5V superimposed on the switch node voltage SW.", 27 PGOOD1 (oc) "Open-Drain Logic Output. PGOOD1 is pulled to ground when the voltage on the VFB1 pin is not within +/-10% of its set point.", 28 TRACK/SS1 (in) "External Tracking and Soft-Start Input."
part B pins: 9 RUN2 (in) "Digital Run Control Inputs for Each Controller. Forcing either of these pins below 0.7V shuts down that controller.", 10 SENSE2- (in) "The (-) Input to the Differential Current Comparators.", 11 SENSE2+ (in) "The (+) Input to the Differential Current Comparators. The ITH pin voltage and controlled offsets between the SENSE- and SENSE+ pins in conjunction with RSENSE set the current trip threshold.", 12 VFB2 (in) "Receives the remotely sensed feedback voltage for each controller from an external resistive divider across the output.", 13 ITH2 "Error Amplifier Outputs and Switching Regulator Compensation Points. Each associated channel’s current comparator trip point increases with this control voltage.", 14 TRACK/SS2 (in) "External Tracking and Soft-Start Input.", 15 TG2 (out) "High Current Gate Drives for Top N-Channel MOSFETs. These are the outputs of floating drivers with a voltage swing equal to INTVCC - 0.5V superimposed on the switch node voltage SW.", 16 SW2 "Switch Node Connections to Inductors. Voltage swing at these pins is from a Schottky diode (external) voltage drop below ground to VIN.", 17 BOOST2 "Bootstrapped Supplies to the Topside Floating Drivers. Capacitors are connected between the BOOST and SW pins and Schottky diodes are tied between the BOOST and INTVCC pins. Voltage swing at the BOOST pins is from INTVCC to (See Datasheet)", 18 BG2 (out) "High Current Gate Drives for Bottom (Synchronous) N-Channel MOSFETs. Voltage swing at these pins is from ground to INTVCC."
part C pins: 5 PLLLPF (in) "The phase-locked loop’s lowpass filter is tied to this pin when synchronizing to an external clock.", 6 PLLIN/MODE (in) "External Synchronization Input to Phase Detector and Forced Continuous Control Input.", 7 SGND (power) "Small-signal Ground common to both controllers, must be routed separately from high current grounds to the common (-) terminals of the CIN capacitors.", 19 INTVCC (power) "Output of the Internal Linear Low Dropout Regulator. The driver and control circuits are powered from this voltage source. Must be decoupled to power ground with a minimum of 4.7uF tantalum or other low ESR capacitor.", 20 EXTVCC (power) "External Power Input to an Internal LDO Connected to INTVCC. This LDO supplies INTVCC power, bypassing the internal LDO powered from VIN whenever EXTVCC is higher than 4.7V. See EXTVCC Connection in the Applications (See Datasheet)", 21 PGND (power) "Driver Power Ground. Connects to the sources of bottom (synchronous) N-channel MOSFETs, anodes of the Schottky rectifi ers and the (-) terminal(s) of CIN.", 22 VIN (power) "Main Supply Pin. A bypass capacitor should be tied between this pin and the signal ground pin."